# Altium footprint library P_DIODE.PcbLib: 1 footprints
Each footprint in its own frame and in the unit in brackets; x right, y up, seen from the top. Pads: shape width x height; smd on the part's side, far side on the other; paste and mask are expansions set on the pad; w line width, h text height; cw(c..) or ccw(c..) is an arc to the next point about the centre after c.
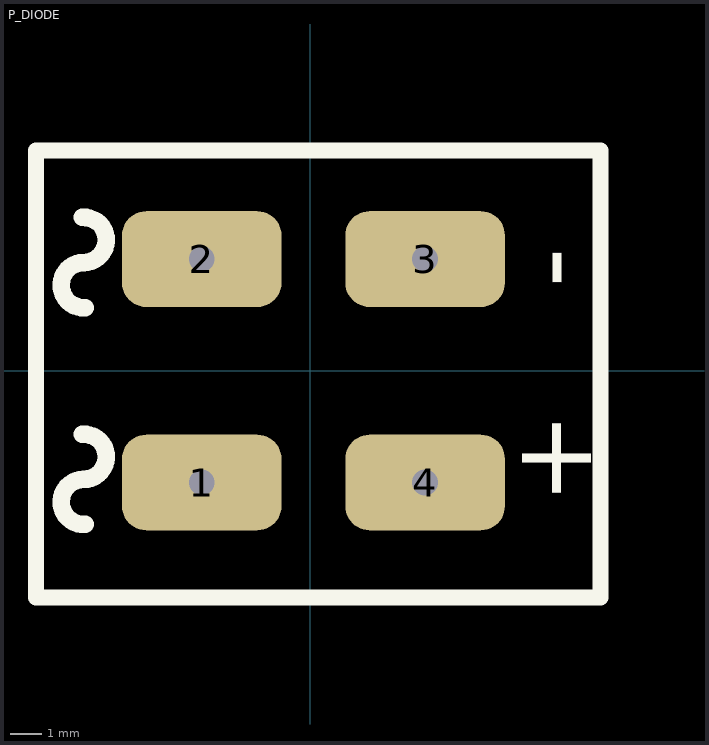
[diagram p0: the footprint, top view; thin cyan lines are the x and y axes]

## P_DIODE [mm]
pads (4):
  rrect50% 5x3 hole 0.813: 1(-3.4,-3.5) 2(-3.4,3.5) 3(3.6,3.5) 4(3.6,-3.5)
Top Overlay:
  lines w0.5: -8.6,-7.1 -8.6,6.9 9.1,6.9 9.1,-7.1 -8.6,-7.1
  lines w0.55: -7.144,-1.987 cw(c-7.1,-2.693) -7.1,-3.4 ccw(c-7.1,-4.107) -7.056,-4.813 ; -7.144,4.806 cw(c-7.1,4.1) -7.1,3.393 ccw(c-7.1,2.686) -7.056,1.98
  text "-" at 8.7,2.6 h2.54
  text "+" at 8.8,-4.2 h2.54